# EAGLE library part 2530-5002UB (library 3M_By_element14_Batch_1)
2x30 right angle shrouded male header
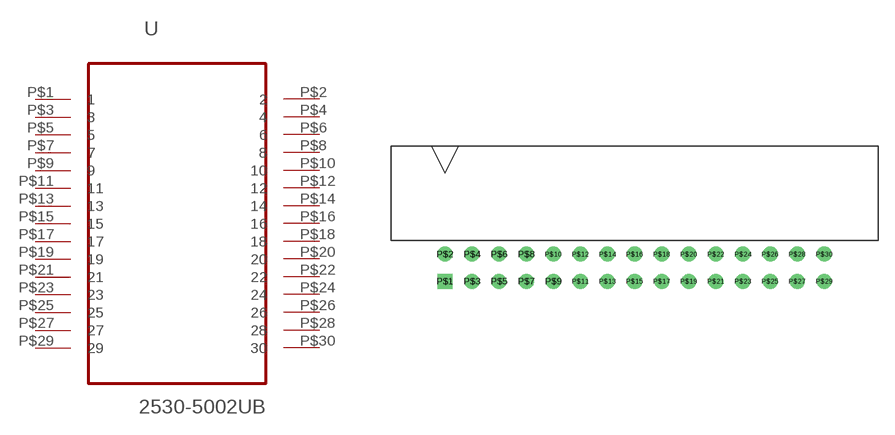
[diagram p130: symbol with the pads of 3M_2530-5002-AR; footprint 3M_2530-5002-AR]

Designator prefix -

## 2530-5002UB  [3M_2530-5002-AR]
P$1  1  pas
P$2  2  pas
P$3  3  pas
P$4  4  pas
P$5  5  pas
P$6  6  pas
P$7  7  pas
P$8  8  pas
P$9  9  pas
P$10  10  pas
P$11  11  pas
P$12  12  pas
P$13  13  pas
P$14  14  pas
P$15  15  pas
P$16  16  pas
P$17  17  pas
P$18  18  pas
P$19  19  pas
P$20  20  pas
P$21  21  pas
P$22  22  pas
P$23  23  pas
P$24  24  pas
P$25  25  pas
P$26  26  pas
P$27  27  pas
P$28  28  pas
P$29  29  pas
P$30  30  pas

## Footprint 3M_2530-5002-AR (pad centres in mm)
drill 0.9 square: P$1 -17.78,-1.27
drill 0.9: P$2 -17.78,1.27; P$3 -15.24,-1.27; P$4 -15.24,1.27; P$5 -12.7,-1.27; P$6 -12.7,1.27; P$7 -10.16,-1.27; P$8 -10.16,1.27; P$9 -7.62,-1.27; P$10 -7.62,1.27; P$11 -5.08,-1.27; P$12 -5.08,1.27; P$13 -2.54,-1.27; P$14 -2.54,1.27; P$15 0,-1.27; P$16 0,1.27; P$17 2.54,-1.27; P$18 2.54,1.27; P$19 5.08,-1.27; P$20 5.08,1.27; P$21 7.62,-1.27; P$22 7.62,1.27; P$23 10.16,-1.27; P$24 10.16,1.27; P$25 12.7,-1.27; P$26 12.7,1.27; P$27 15.24,-1.27; P$28 15.24,1.27; P$29 17.78,-1.27; P$30 17.78,1.27